# EAGLE library part MIMXRT1011DAE5A (library MIMXRT1011DAE5A)
ARM Microcontrollers - MCU i.MX RT1010 Crossover MCU with Arm Cortex -M7 core Source: Datasheet <http://www.nxp.com/docs/en/data-sheet/IMXRT1010CEC.pdf>
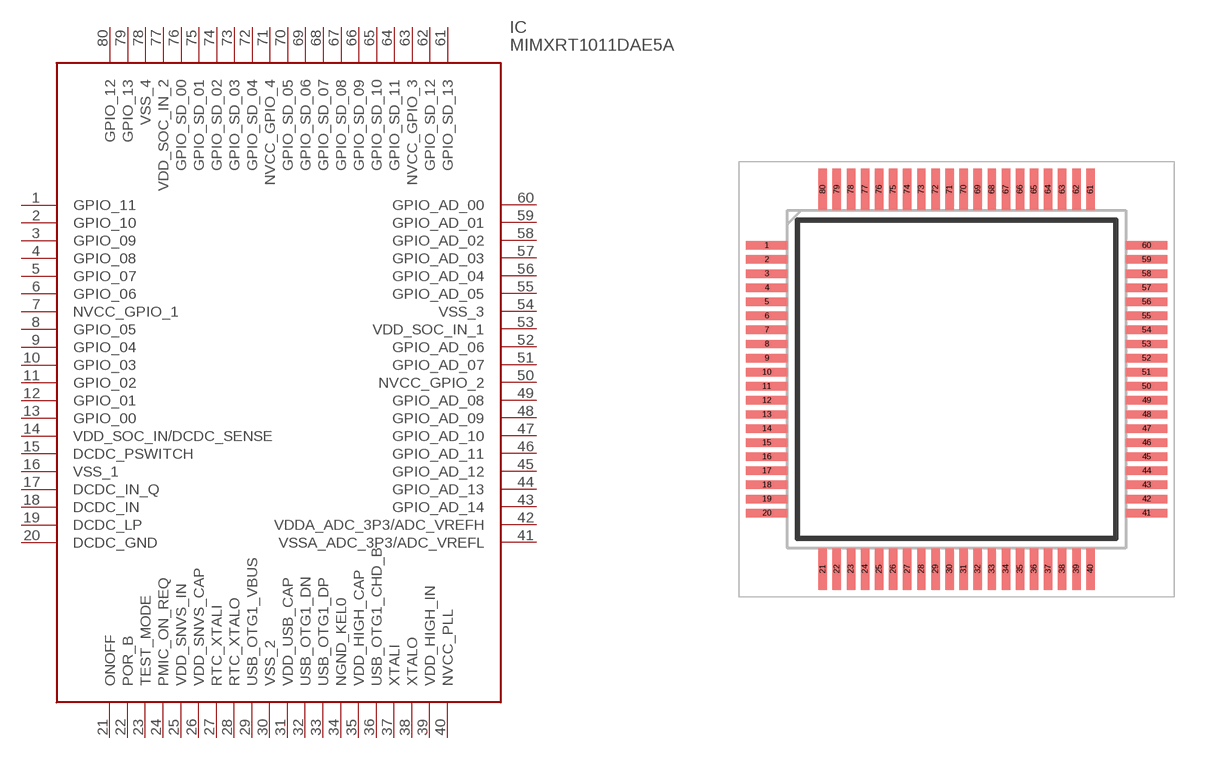
[diagram p0: symbol with the pads of QFP50P1400X1400X160-80N; footprint QFP50P1400X1400X160-80N]

Designator prefix IC

## MIMXRT1011DAE5A (Arrow_Part_Number: MIMXRT1011DAE5A; Arrow_Price-Stock: https://www.arrow.com/en/products/mimxrt1011dae5a/nxp-semiconductors; Description: ARM Microcontrollers - MCU i.MX RT1010 Crossover MCU with Arm<sup> </sup> Cortex<sup> </sup>-M7 core; Height: 1.6mm; Manufacturer_Name: NXP; Manufacturer_Part_Number: MIMXRT1011DAE5A; Mouser_Part_Number: 771-MIMXRT1011DAE5A; Mouser_Price-Stock: https://www.mouser.co.uk/ProductDetail/NXP-Semiconductors/MIMXRT1011DAE5A?qs=P1JMDcb91o5GoeF%252BJrcvqQ%3D%3D)  [QFP50P1400X1400X160-80N]
1  GPIO_11
2  GPIO_10
3  GPIO_09
4  GPIO_08
5  GPIO_07
6  GPIO_06
7  NVCC_GPIO_1
8  GPIO_05
9  GPIO_04
10  GPIO_03
11  GPIO_02
12  GPIO_01
13  GPIO_00
14  VDD_SOC_IN/DCDC_SENSE
15  DCDC_PSWITCH
16  VSS_1
17  DCDC_IN_Q
18  DCDC_IN
19  DCDC_LP
20  DCDC_GND
21  ONOFF
22  POR_B
23  TEST_MODE
24  PMIC_ON_REQ
25  VDD_SNVS_IN
26  VDD_SNVS_CAP
27  RTC_XTALI
28  RTC_XTALO
29  USB_OTG1_VBUS
30  VSS_2
31  VDD_USB_CAP
32  USB_OTG1_DN
33  USB_OTG1_DP
34  NGND_KEL0
35  VDD_HIGH_CAP
36  USB_OTG1_CHD_B
37  XTALI
38  XTALO
39  VDD_HIGH_IN
40  NVCC_PLL
41  VSSA_ADC_3P3/ADC_VREFL
42  VDDA_ADC_3P3/ADC_VREFH
43  GPIO_AD_14
44  GPIO_AD_13
45  GPIO_AD_12
46  GPIO_AD_11
47  GPIO_AD_10
48  GPIO_AD_09
49  GPIO_AD_08
50  NVCC_GPIO_2
51  GPIO_AD_07
52  GPIO_AD_06
53  VDD_SOC_IN_1
54  VSS_3
55  GPIO_AD_05
56  GPIO_AD_04
57  GPIO_AD_03
58  GPIO_AD_02
59  GPIO_AD_01
60  GPIO_AD_00
61  GPIO_SD_13
62  GPIO_SD_12
63  NVCC_GPIO_3
64  GPIO_SD_11
65  GPIO_SD_10
66  GPIO_SD_09
67  GPIO_SD_08
68  GPIO_SD_07
69  GPIO_SD_06
70  GPIO_SD_05
71  NVCC_GPIO_4
72  GPIO_SD_04
73  GPIO_SD_03
74  GPIO_SD_02
75  GPIO_SD_01
76  GPIO_SD_00
77  VDD_SOC_IN_2
78  VSS_4
79  GPIO_13
80  GPIO_12

## Footprint QFP50P1400X1400X160-80N (pad centres in mm)
80 LD FQFP 12X12
smd 1.475 x 0.3: 1 -6.738,4.75; 2 -6.738,4.25; 3 -6.738,3.75; 4 -6.738,3.25; 5 -6.738,2.75; 6 -6.738,2.25; 7 -6.738,1.75; 8 -6.738,1.25; 9 -6.738,0.75; 10 -6.738,0.25; 11 -6.738,-0.25; 12 -6.738,-0.75; 13 -6.738,-1.25; 14 -6.738,-1.75; 15 -6.738,-2.25; 16 -6.738,-2.75; 17 -6.738,-3.25; 18 -6.738,-3.75; 19 -6.738,-4.25; 20 -6.738,-4.75; 41 6.738,-4.75; 42 6.738,-4.25; 43 6.738,-3.75; 44 6.738,-3.25; 45 6.738,-2.75; 46 6.738,-2.25; 47 6.738,-1.75; 48 6.738,-1.25; 49 6.738,-0.75; 50 6.738,-0.25; 51 6.738,0.25; 52 6.738,0.75; 53 6.738,1.25; 54 6.738,1.75; 55 6.738,2.25; 56 6.738,2.75; 57 6.738,3.25; 58 6.738,3.75; 59 6.738,4.25; 60 6.738,4.75
smd 0.3 x 1.475: 21 -4.75,-6.738; 22 -4.25,-6.738; 23 -3.75,-6.738; 24 -3.25,-6.738; 25 -2.75,-6.738; 26 -2.25,-6.738; 27 -1.75,-6.738; 28 -1.25,-6.738; 29 -0.75,-6.738; 30 -0.25,-6.738; 31 0.25,-6.738; 32 0.75,-6.738; 33 1.25,-6.738; 34 1.75,-6.738; 35 2.25,-6.738; 36 2.75,-6.738; 37 3.25,-6.738; 38 3.75,-6.738; 39 4.25,-6.738; 40 4.75,-6.738; 61 4.75,6.738; 62 4.25,6.738; 63 3.75,6.738; 64 3.25,6.738; 65 2.75,6.738; 66 2.25,6.738; 67 1.75,6.738; 68 1.25,6.738; 69 0.75,6.738; 70 0.25,6.738; 71 -0.25,6.738; 72 -0.75,6.738; 73 -1.25,6.738; 74 -1.75,6.738; 75 -2.25,6.738; 76 -2.75,6.738; 77 -3.25,6.738; 78 -3.75,6.738; 79 -4.25,6.738; 80 -4.75,6.738